# Altium footprint library FPC1.25.PcbLib: 37 footprints (part 1 of 3)
Each footprint in its own frame and in the unit in brackets; x right, y up, seen from the top. Pads: shape width x height; smd on the part's side, far side on the other; paste and mask are expansions set on the pad; w line width, h text height; cw(c..) or ccw(c..) is an arc to the next point about the centre after c.
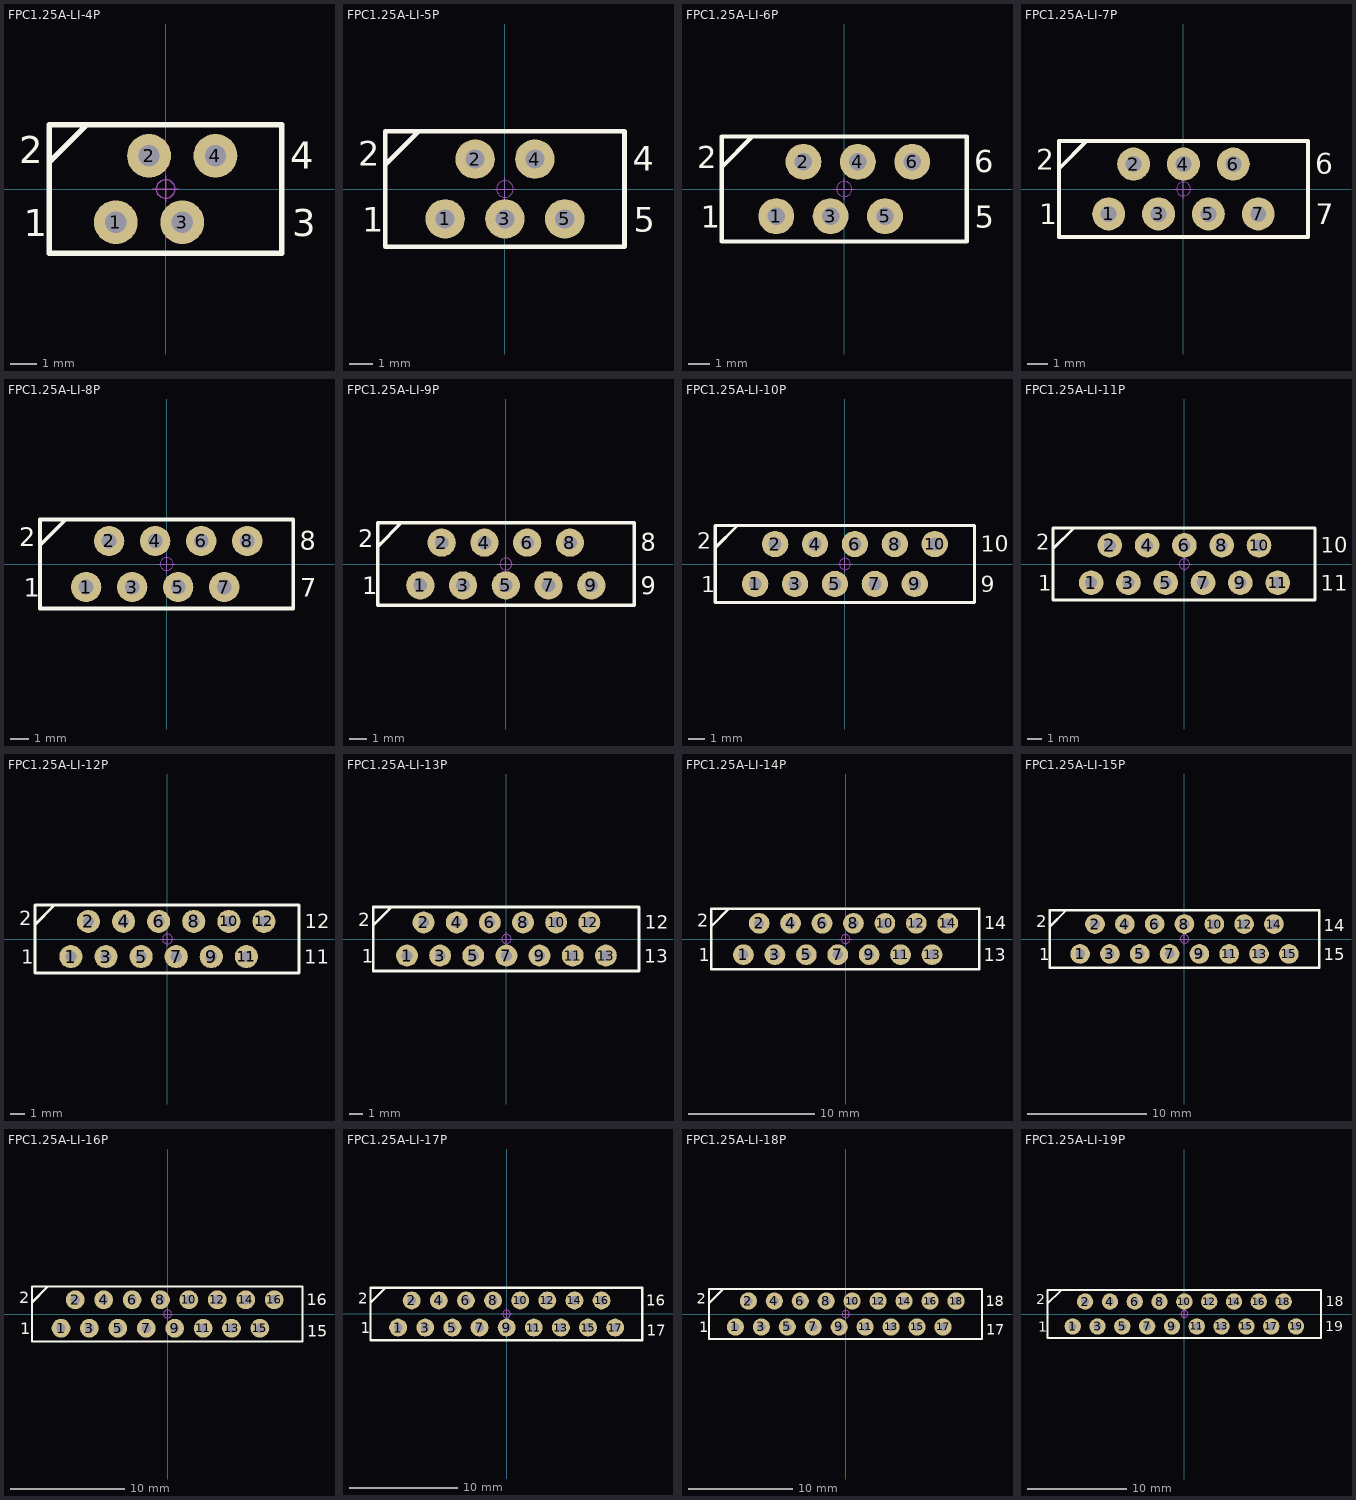
[diagram p0: the footprints below, top view; thin cyan lines are the x and y axes]

## FPC1.25A-LI-4P [mm] "4脚，长：8.5mm，宽：4.5mm，高：7.3mm"
pads (4):
  round 1.65 hole 0.8: 1(-1.875,-1.25) 2(-0.625,1.25) 3(0.625,-1.25) 4(1.875,1.25)
Top Overlay:
  lines w0.2: -4.375,1.016 -2.978,2.413 ; -4.375,-2.413 4.375,-2.413 4.375,2.413 -4.375,2.413 -4.375,-2.413
  text "1" at -5.334,-1.778 h1.02
  text "2" at -5.518,0.965 h1.02
  text "4" at 4.699,0.762 h1.02
  text "3" at 4.756,-1.778 h1.02
Mechanical 15:
  circle w0.05: c0,0 r0.35
  lines w0.05: -0.5,0 0.5,0 ; 0,-0.5 0,0.5
3D body: height 7.3, standoff -2.55, extent -4.3,-2.25 4.3,2.25

## FPC1.25A-LI-5P [mm] "5脚，长：9.75mm，宽：4.5mm，高：7.3mm"
pads (5):
  round 1.65 hole 0.8: 1(-2.5,-1.25) 2(-1.25,1.25) 3(0,-1.25) 4(1.25,1.25) 5(2.5,-1.25)
Top Overlay:
  lines w0.2: -5,1.016 -3.603,2.413 ; -5,-2.413 -5,2.413 5,2.413 5,-2.413 -5,-2.413
  text "5" at 5.381,-1.778 h1.02
  text "4" at 5.334,0.762 h1.02
  text "2" at -6.143,0.965 h1.02
  text "1" at -5.969,-1.778 h1.02
Mechanical 15:
  circle w0.05: c0,0 r0.35
  lines w0.05: -0.5,0 0.5,0 ; 0,-0.5 0,0.5
3D body: height 7.3, standoff -2.55, extent -4.925,-2.25 4.925,2.25

## FPC1.25A-LI-6P [mm] "6脚，长：11mm，宽：4.5mm，高：7.3mm"
pads (6):
  round 1.65 hole 0.8: 1(-3.125,-1.25) 2(-1.875,1.25) 3(-0.625,-1.25) 4(0.625,1.25) 5(1.875,-1.25) 6(3.125,1.25)
Top Overlay:
  lines w0.2: -5.625,1.016 -4.228,2.413 ; 5.087,2.413 5.625,2.413 ; 5.625,2.413 -5.625,2.413 -5.625,-2.413 5.625,-2.413 5.625,2.413
  text "1" at -6.604,-1.778 h1.02
  text "2" at -6.768,0.965 h1.02
  text "6" at 5.969,0.762 h1.02
  text "5" at 6.006,-1.778 h1.02
Mechanical 15:
  circle w0.05: c0,0 r0.35
  lines w0.05: -0.5,0 0.5,0 ; 0,-0.5 0,0.5
3D body: height 7.3, standoff -2.55, extent -5.55,-2.25 5.55,2.25

## FPC1.25A-LI-7P [mm] "7脚，长：12.25mm，宽：4.5mm，高：7.3mm"
pads (7):
  round 1.65 hole 0.8: 1(-3.75,-1.25) 2(-2.5,1.25) 3(-1.25,-1.25) 4(0,1.25) 5(1.25,-1.25) 6(2.5,1.25) 7(3.75,-1.25)
Top Overlay:
  lines w0.2: -6.25,1.016 -4.853,2.413 ; -6.25,-2.413 -6.25,2.413 5.712,2.413 6.25,2.413 6.25,-2.413 -6.25,-2.413
  text "7" at 6.631,-1.778 h1.02
  text "6" at 6.604,0.762 h1.02
  text "2" at -7.393,0.965 h1.02
  text "1" at -7.239,-1.778 h1.02
Mechanical 15:
  circle w0.05: c0,0 r0.35
  lines w0.05: -0.5,0 0.5,0 ; 0,-0.5 0,0.5
3D body: height 7.3, standoff -2.55, extent -6.175,-2.25 6.175,2.25

## FPC1.25A-LI-8P [mm] "8脚，长：13.5mm，宽：4.5mm，高：7.3mm"
pads (8):
  round 1.65 hole 0.8: 1(-4.375,-1.25) 2(-3.125,1.25) 3(-1.875,-1.25) 4(-0.625,1.25) 5(0.625,-1.25) 6(1.875,1.25) 7(3.125,-1.25) 8(4.375,1.25)
Top Overlay:
  lines w0.2: -6.875,1.016 -5.478,2.413 ; -6.875,-2.413 -6.875,2.413 6.875,2.413 6.875,-2.413 -6.875,-2.413
  text "7" at 7.256,-1.778 h1.02
  text "8" at 7.239,0.762 h1.02
  text "2" at -8.018,0.965 h1.02
  text "1" at -7.747,-1.778 h1.02
Mechanical 15:
  circle w0.05: c0,0 r0.35
  lines w0.05: -0.5,0 0.5,0 ; 0,-0.5 0,0.5
3D body: height 7.3, standoff -2.55, extent -6.8,-2.25 6.8,2.25

## FPC1.25A-LI-9P [mm] "9脚，长：14.75mm，宽：4.5mm，高：7.3mm"
pads (9):
  round 1.65 hole 0.8: 1(-5,-1.25) 2(-3.75,1.25) 3(-2.5,-1.25) 4(-1.25,1.25) 5(0,-1.25) 6(1.25,1.25) 7(2.5,-1.25) 8(3.75,1.25) 9(5,-1.25)
Top Overlay:
  lines w0.2: -7.5,1.016 -6.103,2.413 ; -7.5,-2.413 7.5,-2.413 7.5,2.413 -7.5,2.413 -7.5,-2.413
  text "1" at -8.382,-1.778 h1.02
  text "2" at -8.643,0.965 h1.02
  text "8" at 7.874,0.762 h1.02
  text "9" at 7.881,-1.778 h1.02
Mechanical 15:
  circle w0.05: c0,0 r0.35
  lines w0.05: -0.5,0 0.5,0 ; 0,-0.5 0,0.5
3D body: height 7.3, standoff -2.55, extent -7.425,-2.25 7.425,2.25

## FPC1.25A-LI-10P [mm] "10脚，长：16mm，宽：4.5mm，高：7.3mm"
pads (10):
  round 1.65 hole 0.8: 1(-5.625,-1.25) 2(-4.375,1.25) 3(-3.125,-1.25) 4(-1.875,1.25) 5(-0.625,-1.25) 6(0.625,1.25) 7(1.875,-1.25) 8(3.125,1.25) 9(4.375,-1.25) 10(5.625,1.25)
Top Overlay:
  lines w0.2: -8.125,1.016 -6.728,2.413 ; -8.125,-2.413 8.125,-2.413 8.125,2.413 -8.125,2.413 -8.125,-2.413
  text "1" at -9.017,-1.778 h1.02
  text "2" at -9.268,0.965 h1.02
  text "10" at 8.509,0.762 h1.02
  text "9" at 8.506,-1.778 h1.02
Mechanical 15:
  circle w0.05: c0,0 r0.35
  lines w0.05: -0.5,0 0.5,0 ; 0,-0.5 0,0.5
3D body: height 7.3, standoff -2.55, extent -8.05,-2.25 8.05,2.25

## FPC1.25A-LI-11P [mm] "11脚，长：17.25mm，宽：4.5mm，高：7.3mm"
pads (11):
  round 1.65 hole 0.8: 1(-6.25,-1.25) 2(-5,1.25) 3(-3.75,-1.25) 4(-2.5,1.25) 5(-1.25,-1.25) 6(0,1.25) 7(1.25,-1.25) 8(2.5,1.25) 9(3.75,-1.25) 10(5,1.25) 11(6.25,-1.25)
Top Overlay:
  lines w0.2: -8.803,1.016 -7.406,2.413 ; -8.803,-2.413 8.75,-2.413 8.75,2.413 -8.803,2.413 -8.803,-2.413
  text "1" at -9.779,-1.778 h1.02
  text "2" at -9.946,0.965 h1.02
  text "10" at 9.144,0.762 h1.02
  text "11" at 9.131,-1.778 h1.02
Mechanical 15:
  circle w0.05: c0,0 r0.35
  lines w0.05: -0.5,0 0.5,0 ; 0,-0.5 0,0.5
3D body: height 7.3, standoff -2.55, extent -8.675,-2.25 8.675,2.25

## FPC1.25A-LI-12P [mm] "12脚，长：18.5mm，宽：4.5mm，高：7.3mm"
pads (12):
  round 1.65 hole 0.8: 1(-6.875,-1.25) 2(-5.625,1.25) 3(-4.375,-1.25) 4(-3.125,1.25) 5(-1.875,-1.25) 6(-0.625,1.25) 7(0.625,-1.25) 8(1.875,1.25) 9(3.125,-1.25) 10(4.375,1.25) 11(5.625,-1.25) 12(6.875,1.25)
Top Overlay:
  lines w0.2: -9.428,1.016 -8.031,2.413 ; -9.428,-2.413 -9.428,2.413 9.375,2.413 9.375,-2.413 -9.428,-2.413
  text "11" at 9.756,-1.778 h1.02
  text "12" at 9.779,0.762 h1.02
  text "2" at -10.571,0.965 h1.02
  text "1" at -10.414,-1.778 h1.02
Mechanical 15:
  circle w0.05: c0,0 r0.35
  lines w0.05: -0.5,0 0.5,0 ; 0,-0.5 0,0.5
3D body: height 7.3, standoff -2.55, extent -9.3,-2.25 9.3,2.25

## FPC1.25A-LI-13P [mm] "13脚，长：19.75mm，宽：4.5mm，高：7.3mm"
pads (13):
  round 1.65 hole 0.8: 1(-7.5,-1.25) 2(-6.25,1.25) 3(-5,-1.25) 4(-3.75,1.25) 5(-2.5,-1.25) 6(-1.25,1.25) 7(0,-1.25) 8(1.25,1.25) 9(2.5,-1.25) 10(3.75,1.25) 11(5,-1.25) 12(6.25,1.25) 13(7.5,-1.25)
Top Overlay:
  lines w0.2: -10.053,1.016 -8.656,2.413 ; -10.053,-2.413 -10.053,2.413 10,2.413 10,-2.413 -10.053,-2.413
  text "13" at 10.381,-1.778 h1.02
  text "12" at 10.414,0.762 h1.02
  text "2" at -11.196,0.965 h1.02
  text "1" at -10.922,-1.778 h1.02
Mechanical 15:
  circle w0.05: c0,0 r0.35
  lines w0.05: -0.5,0 0.5,0 ; 0,-0.5 0,0.5
3D body: height 7.3, standoff -2.55, extent -9.925,-2.25 9.925,2.25

## FPC1.25A-LI-14P [mm] "14脚，长：21mm，宽：4.5mm，高：7.3mm"
pads (14):
  round 1.65 hole 0.8: 1(-8.125,-1.25) 2(-6.875,1.25) 3(-5.625,-1.25) 4(-4.375,1.25) 5(-3.125,-1.25) 6(-1.875,1.25) 7(-0.625,-1.25) 8(0.625,1.25) 9(1.875,-1.25) 10(3.125,1.25) 11(4.375,-1.25) 12(5.625,1.25) 13(6.875,-1.25) 14(8.125,1.25)
Top Overlay:
  lines w0.2: -10.678,1.016 -9.281,2.413 ; -10.678,-2.413 10.625,-2.413 10.625,2.413 -10.678,2.413 -10.678,-2.413
  text "14" at 11.029,0.762 h1.02
  text "1" at -11.684,-1.778 h1.02
  text "2" at -11.821,0.965 h1.02
  text "13" at 11.006,-1.778 h1.02
Mechanical 15:
  circle w0.05: c0,0 r0.35
  lines w0.05: -0.5,0 0.5,0 ; 0,-0.5 0,0.5
3D body: height 7.3, standoff -2.55, extent -10.55,-2.25 10.55,2.25

## FPC1.25A-LI-15P [mm] "15脚，长：22.4mm，宽：4.5mm，高：7.3mm"
pads (15):
  round 1.65 hole 0.8: 1(-8.75,-1.25) 2(-7.5,1.25) 3(-6.25,-1.25) 4(-5,1.25) 5(-3.75,-1.25) 6(-2.5,1.25) 7(-1.25,-1.25) 8(0,1.25) 9(1.25,-1.25) 10(2.5,1.25) 11(3.75,-1.25) 12(5,1.25) 13(6.25,-1.25) 14(7.5,1.25) 15(8.75,-1.25)
Top Overlay:
  lines w0.2: -11.303,1.016 -9.906,2.413 ; -11.303,-2.413 -11.303,2.413 11.303,2.413 11.303,-2.413 -11.303,-2.413
  text "14" at 11.667,0.655 h1.02
  text "15" at 11.684,-1.778 h1.02
  text "2" at -12.446,0.965 h1.02
  text "1" at -12.192,-1.778 h1.02
Mechanical 15:
  circle w0.05: c0,0 r0.35
  lines w0.05: -0.5,0 0.5,0 ; 0,-0.5 0,0.5
3D body: height 7.3, standoff -2.55, extent -11.2,-2.25 11.2,2.25

## FPC1.25A-LI-16P [mm] "16脚，长：23.5mm，宽：4.5mm，高：7.3mm"
pads (16):
  round 1.65 hole 0.8: 1(-9.375,-1.25) 2(-8.125,1.25) 3(-6.875,-1.25) 4(-5.625,1.25) 5(-4.375,-1.25) 6(-3.125,1.25) 7(-1.875,-1.25) 8(-0.625,1.25) 9(0.625,-1.25) 10(1.875,1.25) 11(3.125,-1.25) 12(4.375,1.25) 13(5.625,-1.25) 14(6.875,1.25) 15(8.125,-1.25) 16(9.375,1.25)
Top Overlay:
  lines w0.2: -11.928,1.016 -10.531,2.413 ; -11.928,-2.413 -11.928,2.413 11.875,2.413 11.875,-2.413 -11.928,-2.413
  text "15" at 12.307,-1.981 h1.02
  text "16" at 12.256,0.762 h1.02
  text "2" at -13.071,0.965 h1.02
  text "1" at -12.954,-1.778 h1.02
Mechanical 15:
  circle w0.05: c0,0 r0.35
  lines w0.05: -0.5,0 0.5,0 ; 0,-0.5 0,0.5
3D body: height 7.3, standoff -2.55, extent -11.8,-2.25 11.8,2.25

## FPC1.25A-LI-17P [mm] "17脚，长：24.75mm，宽：4.5mm，高：7.3mm"
pads (17):
  round 1.65 hole 0.8: 1(-10,-1.25) 2(-8.75,1.25) 3(-7.5,-1.25) 4(-6.25,1.25) 5(-5,-1.25) 6(-3.75,1.25) 7(-2.5,-1.25) 8(-1.25,1.25) 9(0,-1.25) 10(1.25,1.25) 11(2.5,-1.25) 12(3.75,1.25) 13(5,-1.25) 14(6.25,1.25) 15(7.5,-1.25) 16(8.75,1.25) 17(10,-1.25)
Top Overlay:
  lines w0.2: -12.553,1.016 -11.156,2.413 ; -12.553,-2.413 12.5,-2.413 12.5,2.413 -12.553,2.413 -12.553,-2.413
  text "1" at -13.462,-1.778 h1.02
  text "2" at -13.696,0.965 h1.02
  text "16" at 12.881,0.762 h1.02
  text "17" at 12.932,-1.981 h1.02
Mechanical 15:
  circle w0.05: c0,0 r0.35
  lines w0.05: -0.5,0 0.5,0 ; 0,-0.5 0,0.5
3D body: height 7.3, standoff -2.55, extent -12.425,-2.25 12.425,2.25

## FPC1.25A-LI-18P [mm] "18脚，长：26mm，宽：4.5mm，高：7.3mm"
pads (18):
  round 1.65 hole 0.8: 1(-10.625,-1.25) 2(-9.375,1.25) 3(-8.125,-1.25) 4(-6.875,1.25) 5(-5.625,-1.25) 6(-4.375,1.25) 7(-3.125,-1.25) 8(-1.875,1.25) 9(-0.625,-1.25) 10(0.625,1.25) 11(1.875,-1.25) 12(3.125,1.25) 13(4.375,-1.25) 14(5.625,1.25) 15(6.875,-1.25) 16(8.125,1.25) 17(9.375,-1.25) 18(10.625,1.25)
Top Overlay:
  lines w0.2: -13.178,1.016 -11.781,2.413 ; -13.178,-2.413 13.125,-2.413 13.125,2.413 -13.178,2.413 -13.178,-2.413
  text "1" at -14.097,-1.778 h1.02
  text "2" at -14.321,0.965 h1.02
  text "18" at 13.506,0.762 h1.02
  text "17" at 13.557,-1.981 h1.02
Mechanical 15:
  circle w0.05: c0,0 r0.35
  lines w0.05: -0.5,0 0.5,0 ; 0,-0.5 0,0.5
3D body: height 7.3, standoff -2.55, extent -13.05,-2.25 13.05,2.25

## FPC1.25A-LI-19P [mm] "19脚，长：27.25mm，宽：4.5mm，高：7.3mm"
pads (19):
  round 1.65 hole 0.8: 1(-11.25,-1.25) 2(-10,1.25) 3(-8.75,-1.25) 4(-7.5,1.25) 5(-6.25,-1.25) 6(-5,1.25) 7(-3.75,-1.25) 8(-2.5,1.25) 9(-1.25,-1.25) 10(0,1.25) 11(1.25,-1.25) 12(2.5,1.25) 13(3.75,-1.25) 14(5,1.25) 15(6.25,-1.25) 16(7.5,1.25) 17(8.75,-1.25) 18(10,1.25) 19(11.25,-1.25)
Top Overlay:
  lines w0.2: -13.803,1.016 -12.406,2.413 ; -13.803,-2.413 -13.803,2.413 13.75,2.413 13.75,-2.413 -13.803,-2.413
  text "19" at 14.205,-1.758 h1.02
  text "18" at 14.258,0.762 h1.02
  text "2" at -14.946,0.965 h1.02
  text "1" at -14.732,-1.778 h1.02
Mechanical 15:
  circle w0.05: c0,0 r0.35
  lines w0.05: -0.5,0 0.5,0 ; 0,-0.5 0,0.5
3D body: height 7.3, standoff -2.55, extent -13.675,-2.25 13.675,2.25